# Altium schematic symbol library DC_DC_Converter.SchLib: 1 symbol
Pins are listed as number, name and electrical type; pins without a type are passive.

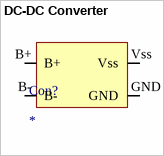
[diagram p0: symbol DC-DC Converter]

## DC-DC Converter
designator Con?
footprint DC-DC Conv; pin to pad GND>Vout- Vss>Vout+
pins: B+, B-, GND, Vss